# EAGLE library part MICS-20 (library con-lumberg)
CONNECTOR
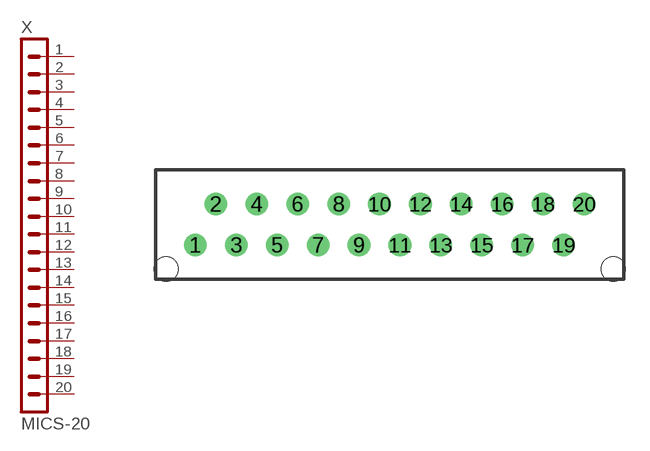
[diagram p6: symbol with the pads of MICS-20; footprint MICS-20]

Designator prefix X

## MICS-20 (MPN: MICS 20; OC_FARNELL: 1216998; OC_NEWARK: 97K5081)  [MICS-20]
1  1  pas
2  2  pas
3  3  pas
4  4  pas
5  5  pas
6  6  pas
7  7  pas
8  8  pas
9  9  pas
10  10  pas
11  11  pas
12  12  pas
13  13  pas
14  14  pas
15  15  pas
16  16  pas
17  17  pas
18  18  pas
19  19  pas
20  20  pas

## Footprint MICS-20 (pad centres in mm)
CONNECTOR
drill 0.85 pad 1.397: 1 -12.065,-1.27; 2 -10.795,1.27; 3 -9.525,-1.27; 4 -8.255,1.27; 5 -6.985,-1.27; 6 -5.715,1.27; 7 -4.445,-1.27; 8 -3.175,1.27; 9 -1.905,-1.27; 10 -0.635,1.27; 11 0.635,-1.27; 12 1.905,1.27; 13 3.175,-1.27; 14 4.445,1.27; 15 5.715,-1.27; 16 6.985,1.27; 17 8.255,-1.27; 18 9.525,1.27; 19 10.795,-1.27; 20 12.065,1.27
hole 1.5 at 13.865,-2.75
hole 1.5 at -13.865,-2.75